# EAGLE library part STM32L151C6U6 (library ST Microelctronics_By_element14_Batch_1)
32-bit MCU
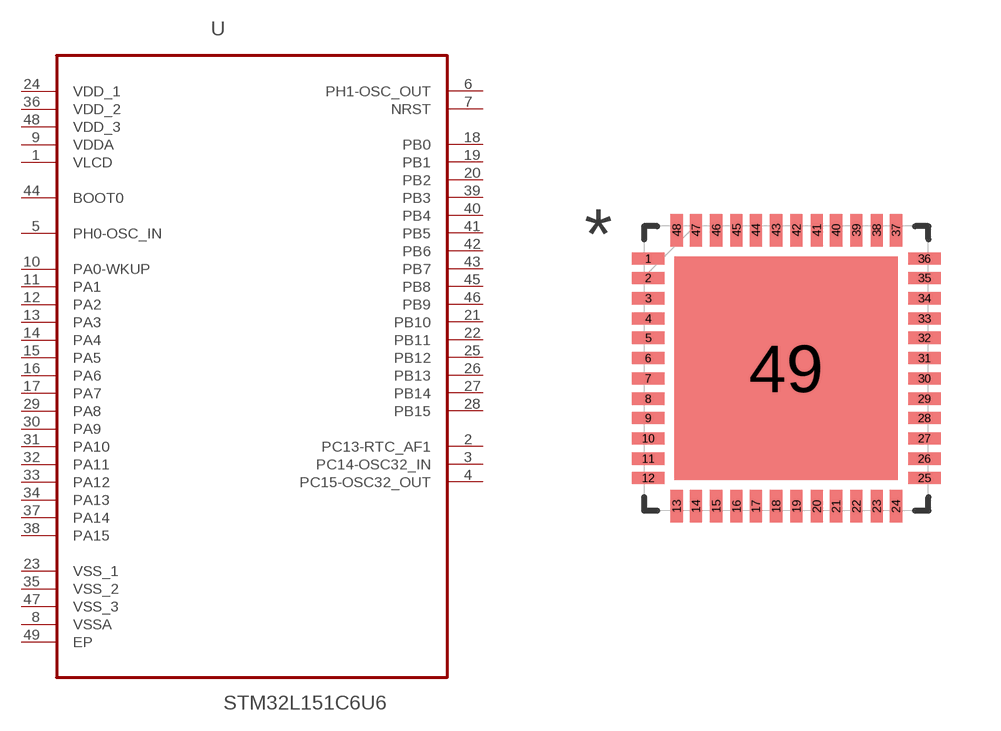
[diagram p341: symbol with the pads of QFN50P700X700X60-49N; footprint QFN50P700X700X60-49N]

Designator prefix U

## STM32L151C6U6 (MPN: STM32L151C6U6; OC_FARNELL: 2060922; OC_NEWARK: 65T3789; PACKAGE: QFN-48; SUPPLIER: STMICROELECTRONICS)  [QFN50P700X700X60-49N]
1  VLCD  pwr
2  PC13-RTC_AF1
3  PC14-OSC32_IN
4  PC15-OSC32_OUT
5  PH0-OSC_IN  in
6  PH1-OSC_OUT  out
7  NRST
8  VSSA  pwr
9  VDDA  pwr
10  PA0-WKUP
11  PA1
12  PA2
13  PA3
14  PA4
15  PA5
16  PA6
17  PA7
18  PB0
19  PB1
20  PB2
21  PB10
22  PB11
23  VSS_1  pwr
24  VDD_1  pwr
25  PB12
26  PB13
27  PB14
28  PB15
29  PA8
30  PA9
31  PA10
32  PA11
33  PA12
34  PA13
35  VSS_2  pwr
36  VDD_2  pwr
37  PA14
38  PA15
39  PB3
40  PB4
41  PB5
42  PB6
43  PB7
44  BOOT0  in
45  PB8
46  PB9
47  VSS_3  pwr
48  VDD_3  pwr
49  EP  pas

## Footprint QFN50P700X700X60-49N (pad centres in mm)
smd 0.813 x 0.305: 1 -3.454,2.743; 2 -3.454,2.261; 3 -3.454,1.753; 4 -3.454,1.245; 5 -3.454,0.762; 6 -3.454,0.254; 7 -3.454,-0.254; 8 -3.454,-0.762; 9 -3.454,-1.245; 10 -3.454,-1.753; 11 -3.454,-2.261; 12 -3.454,-2.743; 25 3.454,-2.743; 26 3.454,-2.261; 27 3.454,-1.753; 28 3.454,-1.245; 29 3.454,-0.762; 30 3.454,-0.254; 31 3.454,0.254; 32 3.454,0.762; 33 3.454,1.245; 34 3.454,1.753; 35 3.454,2.261; 36 3.454,2.743
smd 0.305 x 0.813: 13 -2.743,-3.454; 14 -2.261,-3.454; 15 -1.753,-3.454; 16 -1.245,-3.454; 17 -0.762,-3.454; 18 -0.254,-3.454; 19 0.254,-3.454; 20 0.762,-3.454; 21 1.245,-3.454; 22 1.753,-3.454; 23 2.261,-3.454; 24 2.743,-3.454; 37 2.743,3.454; 38 2.261,3.454; 39 1.753,3.454; 40 1.245,3.454; 41 0.762,3.454; 42 0.254,3.454; 43 -0.254,3.454; 44 -0.762,3.454; 45 -1.245,3.454; 46 -1.753,3.454; 47 -2.261,3.454; 48 -2.743,3.454
smd 5.588 x 5.588: 49 0,0